# Altium schematic symbol library Potentiometer.SchLib: 5 symbols
Pins are listed as number, name and electrical type; pins without a type are passive.

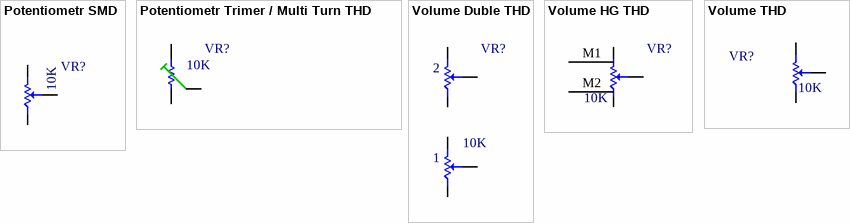
[diagram p0: symbols Potentiometr SMD to Volume THD]

## Potentiometr SMD
designator VR?  value 10K
Potentiometr SMD; DatasheetVersion: 2022
footprint POT4MM-Small Pot (Square Trimming Potentiometer)
footprint POT4MM-Triming (Square Trimming Potentiometer)
footprint SMD_PVG3A
footprint SMD_PVG5H
footprint SMD_PVZ3A
footprint SMD_SM-42/43B
footprint SMD_SM-42/43W
footprint POTS_V10MM (POT, TRIM, V-10 10mm SMD)
footprint POTS_3314G (POT SMD, 5.0X5.0mm, Trimming, 3314G)
footprint POTS_3214W (POT SMD, 4.0X5.0mm, Trimming SM-42/43W 3214W)
footprint POTS_5MM (POT SMD, 5.0X5.0mm, Trimming PVG5H)
footprint POTS_3MM (POT SMD, 3.0X3.0mm, Trimming PVG3A PVZ3A)
pins: 1 CCW, 2, 3

## Potentiometr Trimer / Multi Turn THD
designator VR?  value 10K
Potentiometr Trimer / Multi Turn THD; DatasheetVersion: 2022
footprint POT_V10MM (POT, TRIM, V-10 10mm)
footprint POT_PIHER15MM (POT, TRIM, PIHER PT-15 15mm)
footprint POT_PIHER10MM (POT, TRIM, PIHER PT-10 10mm)
footprint POT_CA9MTV (POT, TRIM, 10.0X10.0mm, CA9MTV)
footprint POT_3362S (POT, TRIM, 4.3X6.6mm 3362S)
footprint POT_3362H (POT, TRIM, 6.6X6.8mm 3362H, 3362P, 3362R)
footprint S64Y
footprint S64W
footprint POT_3306W (POT, TRIM, 4.5X6.8mm 3306W)
footprint POT_3306F (POT, TRIM, 7.0X7.0mm, pitch: 2.5mm, MURATA, 3306F)
footprint POT_3296Z (POT, TRIM, 10.0X5.0mm, pitch: 2.5mm, 3296Z)
footprint POT_3296Y (POT, TRIM, 10.0X5.0mm, pitch: 2.5mm, MURATA, PV36Y 3296Y S64Y)
footprint POT_3296X (POT, TRIM, 10.0X5.0mm, pitch: 2.5mm, MURATA, PV36X 3296X)
footprint POT_3296W (POT, TRIM, 10.0X5.0mm, pitch: 2.5mm 3299W 3296W S64W)
footprint POT_3296P (POT, TRIM, 9.5X9.5mm HORIZENTAL 3296P)
footprint POT_3262W (POT, TRIM, 4.3X6.6mm 3262W)
footprint POT_3260H (POT, TRIM, 4.3X6.3mm 3260H)
footprint POT_3006P (POT, TRIM, 19.0X4.8mm 3006P)
footprint POT_7X5 (POT, TRIM, 7.5X5.0mm, pitch: 5.0mm)
footprint Pot 00
footprint Multi Turn 02
footprint Multi Turn 01 (Stand Multi Turn - Turning CW Increase P1~2 Resistor)
footprint CA9V
footprint CA9MTV
footprint CA9H5
footprint 3306W
footprint 3306F
footprint 3296Z
footprint 3296Y
footprint 3296X
footprint 3296W
footprint 3296P
footprint 3006P
pins: 1, 2, 3

## Volume Duble THD
designator VR?  value 10K
Volume Duble THD; DatasheetVersion: 2022
footprint 3RP/1610G
pins: 1-1, 1-2, 1-3, 2-1, 2-2, 2-3
text: 2; 1

## Volume HG THD
designator VR?  value 10K
Volume HG THD; DatasheetVersion: 2022
footprint EVUF
pins: 1, 2, 3, M1, M2

## Volume THD
designator VR?  value 10K
Volume THD; DatasheetVersion: 2022
footprint Setpoint POT
footprint Setpoint POT Right
footprint VOL_R (VOULME RIGHT ANGLE)
footprint VOL_3590S (VOULME 3590S)
footprint VOL_14MM (VOULME  14mm, RV141F-40E3)
footprint VOL_9MM (VOULME  9mm Alpha Alps, RV09ACF EVUF)
footprint VOL_R S (VOULME RIGHT ANGLE)
footprint Setpoint POT Right S
pins: 1, 2, 3